# Altium footprint library IDC_100_2x3_RA.PcbLib: 1 footprints
Each footprint in its own frame and in the unit in brackets; x right, y up, seen from the top. Pads: shape width x height; smd on the part's side, far side on the other; paste and mask are expansions set on the pad; w line width, h text height; cw(c..) or ccw(c..) is an arc to the next point about the centre after c.
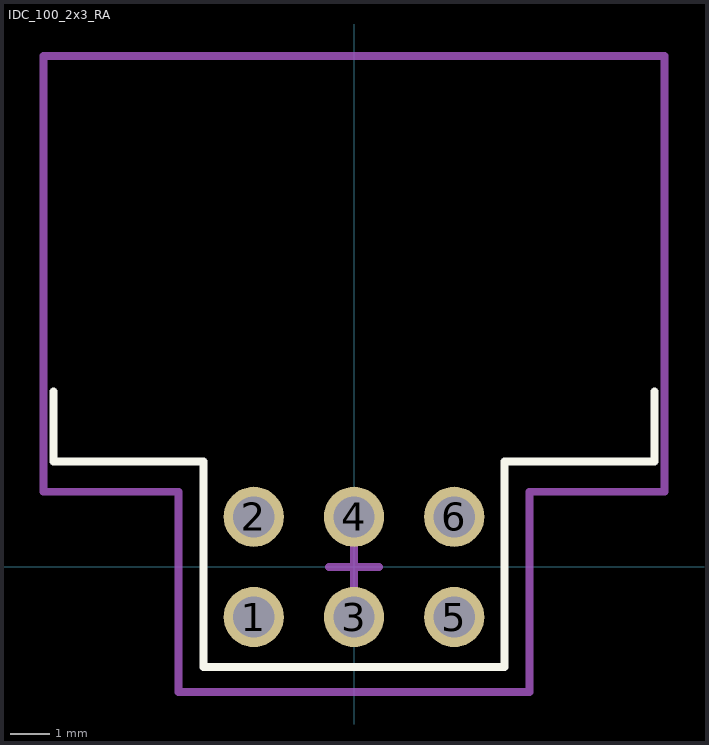
[diagram p0: the footprint, top view; thin cyan lines are the x and y axes]

## IDC_100_2x3_RA [mil]
pads (6):
  round 60 hole 41: 1(-100,-50) 2(-100,50) 3(0,-50) 4(0,50) 5(100,-50) 6(100,50)
Top Overlay:
  lines w7.87: -300,175 -300,105 -150,105 -150,-100 150,-100 150,105 300,105 300,175
Mechanical 15:
  lines w7.87: -25,0 25,0 ; 0,-25 0,25 ; -310,75 -175,75 -175,-125 175,-125 175,75 310,75 310,510 -310,510 -310,75
3D body "75867131lf.stp": height 366.19, standoff -119.66, extent -291.93,-65 291.93,485